# Altium schematic symbol library JTAG_ARM_20PIN.SchLib: 1 symbol
Pins are listed as number, name and electrical type; pins without a type are passive.

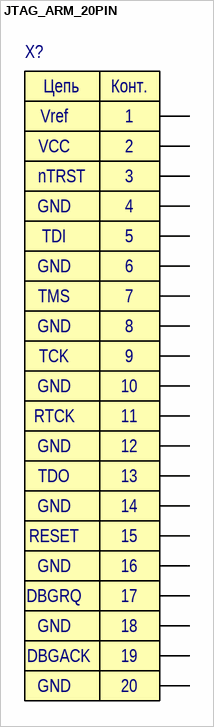
[diagram p0: symbol JTAG_ARM_20PIN]

## JTAG_ARM_20PIN
designator X?
pins: 1, 2, 3, 4, 5, 6, 7, 8, 9, 10, 11, 12, 13, 14, 15, 16, 17, 18, 19, 20
1 alternate drawing of the same symbol
text: Цепь; Конт.; Vref; VCC; nTRST; GND; TDI; TMS; TCK; RTCK; TDO; RESET; DBGRQ; DBGACK